# EAGLE library part DS3231M (library miller)
DS3231M real time clock Battery backup, 2.3V to 5.5V supply voltage 1Hz and 32.768kHz outputs NOTE: This is a slightly lower cost version of the regular DS3231S, with fewer clock frequency output options and slightly lower long-term time accuracy. It uses the same I2C communications protocol as the DS3231S, and is available in a small SOIC-8 package or Wide SOIC-16 (0.300") package. Maxim PN DS3231MZ+ SOIC-8 package Maxim PN DS3231M+ SOIC-16 Wide package
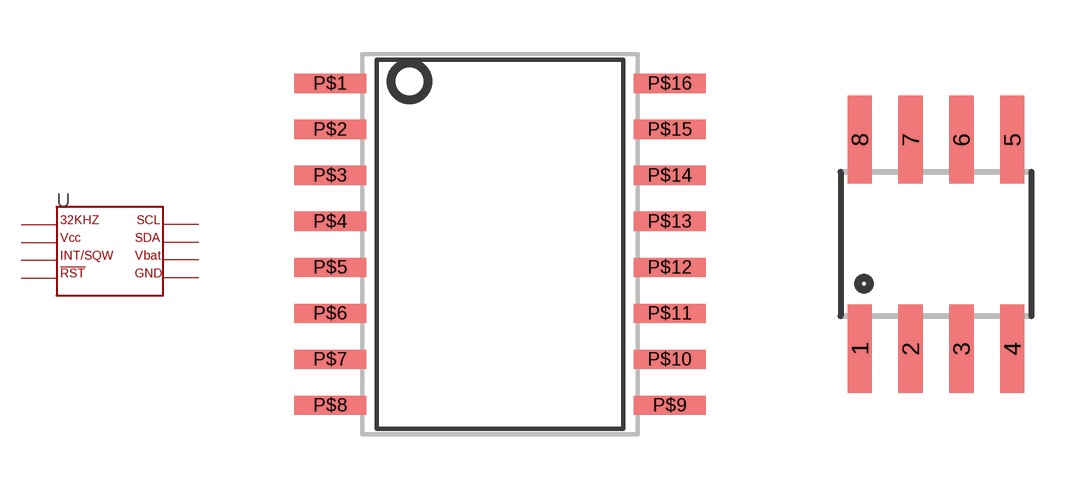
[diagram p27: symbol with the pads of SOIC-16_0.300; footprints SOIC-16_0.300, DS3231M_SOIC8]

Designator prefix -

## DS3231MSOIC-16_NARROW  [SOIC-16_0.300]
P$1  P$1_32KHZ
P$2  P$2_VCC  pwr
P$3  P$3_INT
P$4  P$4_RST
P$13  P$5_GND  pwr
P$14  P$6_VBAT
P$15  P$7_SDA
P$16  P$8_SCL

## DS3231MSOIC-8  [DS3231M_SOIC8]
1  P$1_32KHZ
2  P$2_VCC  pwr
3  P$3_INT
4  P$4_RST
5  P$5_GND  pwr
6  P$6_VBAT
7  P$7_SDA
8  P$8_SCL

## Footprint SOIC-16_0.300 (pad centres in mm)
Maxim pattern 16 SO W16#H2 http://pdfserv.maximintegrated.com/land_patterns/90-0107.PDF
smd 1.98 x 0.53: P$1 -4.685,4.445; P$2 -4.685,3.175; P$3 -4.685,1.905; P$4 -4.685,0.635; P$5 -4.685,-0.635; P$6 -4.685,-1.905; P$7 -4.685,-3.175; P$8 -4.685,-4.445; P$9 4.685,-4.445; P$10 4.685,-3.175; P$11 4.685,-1.905; P$12 4.685,-0.635; P$13 4.685,0.635; P$14 4.685,1.905; P$15 4.685,3.175; P$16 4.685,4.445

## Footprint DS3231M_SOIC8 (pad centres in mm)
Maxim DS3231M real time clock pattern This is the smaller cheaper DS3231M model, vs S model. This version does not have as many square wave output frequencies (just 32.768 kHz and 1Hz).
smd 0.61 x 2.21: 1 -1.905,-2.616; 2 -0.635,-2.616; 3 0.635,-2.616; 4 1.905,-2.616; 5 1.905,2.616; 6 0.635,2.616; 7 -0.635,2.616; 8 -1.905,2.616